# EAGLE library part CNC-1001-010-01001 (library utesla)
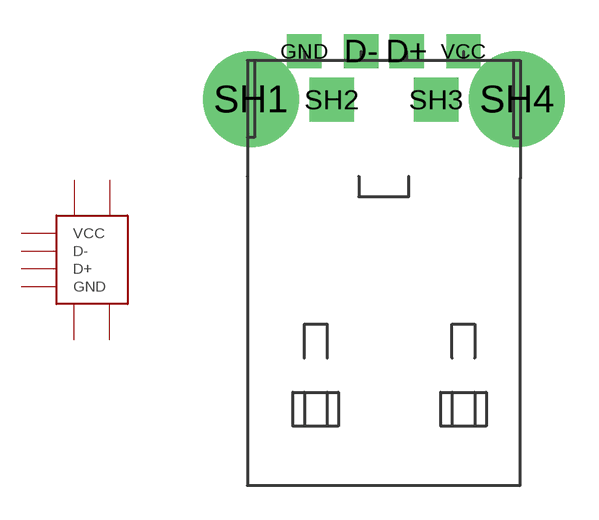
[diagram p5: symbol with the pads of USB-A; footprint USB-A]

Designator prefix -

## CNC-1001-010-01001  [USB-A]
D+  D+
D-  D-
GND  GND
SH1  SH1
SH2  SH2
SH3  SH3
SH4  SH4
VCC  VCC

## Footprint USB-A (pad centres in mm)
drill 1 square: D+ 1,0; D- -1,0; GND -3.5,0; VCC 3.5,0
drill 3.2 pad 3.6: SH1 -5.85,-2.1; SH4 5.85,-2.1
drill 1.3 square: SH2 -2.3,-2.13; SH3 2.3,-2.13